# EAGLE library part DSUB9 (library FCI)
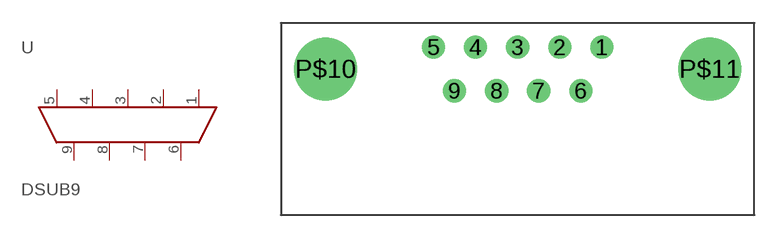
[diagram p0: symbol with the pads of DSUB9; footprint DSUB9]

Designator prefix -

## DSUB9  [DSUB9]
1  5
2  4
3  3
4  2
5  1
6  9
7  8
8  7
9  6

## Footprint DSUB9 (pad centres in mm)
drill 1 round: 1 5.48,1.42; 2 2.74,1.42; 3 0,1.42; 4 -2.74,1.42; 5 -5.48,1.42; 6 4.11,-1.42; 7 1.37,-1.42; 8 -1.37,-1.42; 9 -4.11,-1.42
drill 3.1 round: P$10 -12.495,0; P$11 12.495,0